# Altium footprint library Switchcraft-footprints.PcbLib: 10 footprints
Each footprint in its own frame and in the unit in brackets; x right, y up, seen from the top. Pads: shape width x height; smd on the part's side, far side on the other; paste and mask are expansions set on the pad; w line width, h text height; cw(c..) or ccw(c..) is an arc to the next point about the centre after c.
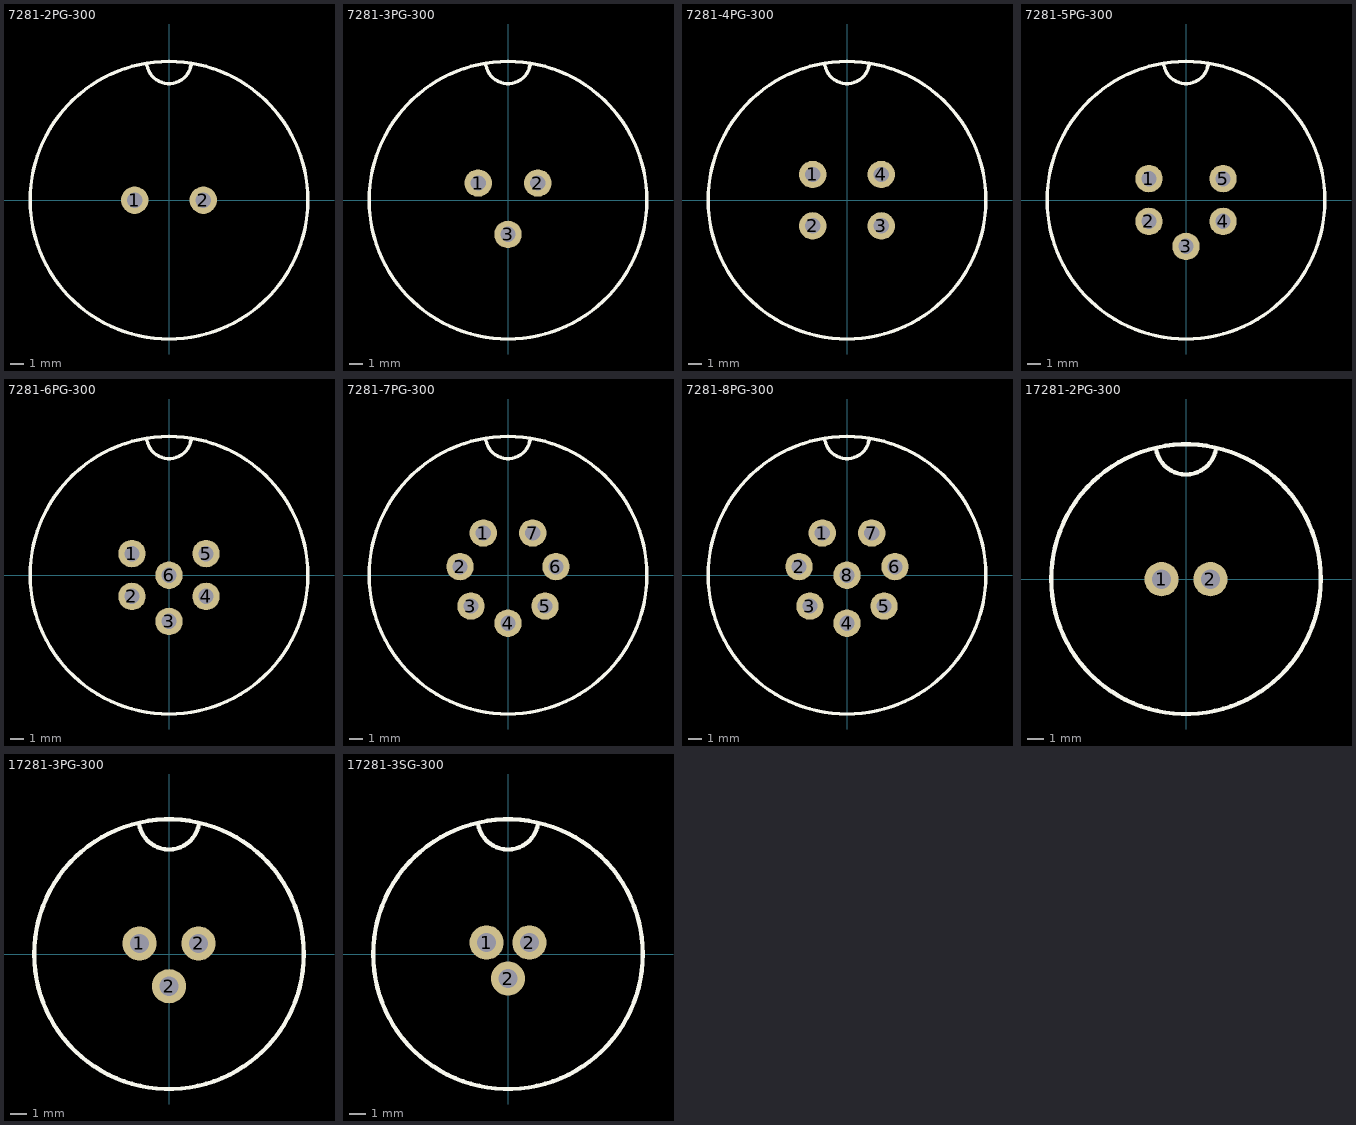
[diagram p0: the footprints below, top view; thin cyan lines are the x and y axes]

## 7281-2PG-300 [mil] "MINI-CON-X 2 POS #20 PIN"
pads (2):
  round 80 hole 45: 1(-100,0) 2(100,0)
Top Overlay:
  circle w10: c0,0 r405
  lines w10: -64.45,395.17 ccw(c0,405) 64.43,395.09
3D body "7280-2PG-300.STEP": height 670, standoff -91.51, extent -406,-461.88 406,461.88

## 7281-3PG-300 [mil] "MINI-CON-X 3 POS #20 PIN"
pads (3):
  round 80 hole 45: 1(-87,50) 2(87,50) 3(0,-100)
Top Overlay:
  circle w10: c0,0 r405
  lines w10: -64.45,395.17 ccw(c0,405) 64.43,395.09
3D body "7281-3PG-300.STEP": height 670, standoff -171, extent -461.88,-403 461.88,409

## 7281-4PG-300 [mil] "MINI-CON-X 4 POS #20 PIN"
pads (4):
  round 80 hole 45: 1(-100,75) 2(-100,-75) 3(100,-75) 4(100,75)
Top Overlay:
  circle w10: c0,0 r405
  lines w10: -64.45,395.17 ccw(c0,405) 64.43,395.09
3D body "7281-4PG-300.STEP": height 670, standoff -171, extent -406,-461.88 406,461.88

## 7281-5PG-300 [mil] "MINI-CON-X 5 POS #20 PIN"
pads (5):
  round 80 hole 45: 1(-108,63) 2(-108,-62) 3(0,-135) 4(108,-62) 5(108,63)
Top Overlay:
  circle w10: c0,0 r405
  lines w10: -64.45,395.17 ccw(c0,405) 64.43,395.09
3D body "7281-5PG-300.STEP": height 670, standoff -171, extent -461.88,-406 461.88,406

## 7281-6PG-300 [mil] "MINI-CON-X 6 POS #20 PIN"
pads (6):
  round 80 hole 45: 1(-108,63) 2(-108,-62) 3(0,-135) 4(108,-62) 5(108,63) 6(0,0)
Top Overlay:
  circle w10: c0,0 r405
  lines w10: -64.45,395.17 ccw(c0,405) 64.43,395.09
3D body "7281-6PG-300.STEP": height 670, standoff -171, extent -461.88,-406 461.88,406

## 7281-7PG-300 [mil] "MINI-CON-X 7 POS #20 PIN"
pads (7):
  round 80 hole 45: 1(-72,123) 2(-140,25) 3(-108,-90) 4(0,-140) 5(108,-90) 6(140,25) 7(72,123)
Top Overlay:
  circle w10: c0,0 r405
  lines w10: -64.45,395.17 ccw(c0,405) 64.43,395.09
3D body "7281-8PG-300.STEP": height 670, standoff -192, extent -461.88,-406 461.88,406

## 7281-8PG-300 [mil] "MINI-CON-X 8 POS #20 PIN"
pads (8):
  round 80 hole 45: 1(-72,123) 2(-140,25) 3(-108,-90) 4(0,-140) 5(108,-90) 6(140,25) 7(72,123) 8(0,0)
Top Overlay:
  circle w10: c0,0 r405
  lines w10: -64.45,395.17 ccw(c0,405) 64.43,395.09
3D body "7281-8PG-300.STEP": height 670, standoff -192, extent -461.88,-406 461.88,406

## 17281-2PG-300 [mil] "MICRO-CON-X 2 POS #20 PIN"
pads (2):
  round 80 hole 45: 1(-57,0) 2(57,0)
Top Overlay:
  circle w10: c0,0 r315
  lines w10: -70,305 ccw(c0,315) 70,305
3D body "17281-2PG-300.STEP": height 718, standoff -128, extent -357.96,-312.5 357.96,312.5

## 17281-3PG-300 [mil] "MICRO-CON-X 3 POS #20 PIN"
pads (3):
  round 80 hole 45: 1(-69,25) 2(0,-75) 2(69,25)
Top Overlay:
  circle w10: c0,0 r315
  lines w10: -70,305 ccw(c0,315) 70,305
3D body "17281-3PG-300.STEP": height 718, standoff -128, extent -357.96,-312.5 357.96,312.5

## 17281-3SG-300 [mil] "MICRO-CON-X 3 POS #20 SOCKET"
pads (3):
  round 80 hole 45: 1(-50,27) 2(0,-57) 2(50,27)
Top Overlay:
  circle w10: c0,0 r315
  lines w10: -70,305 ccw(c0,315) 70,305
3D body "17281-3SG-300.STEP": height 718, standoff -134.05, extent -357.96,-312.5 357.96,312.5